# EAGLE library part TOPLED-3 (library _led-rgb)
OSRAM Edited: brunql Removed center pad in pcb - Hyper Multi TOPLED® (RGB) LB E673, LV E673, LT E673 - Power TOPLED® Enhanced optical Power LED (HOP2000) LS E67B, LA E67B, LO E67B, LY E67B - Hyper Multi TOPLED® Enhanced optical Power LED (HOP2000 / ATON®) LATB T66B - Hyper Multi TOPLED® Hyper-Bright LED LATB T686 Source: http://www.osram.convergy.de/
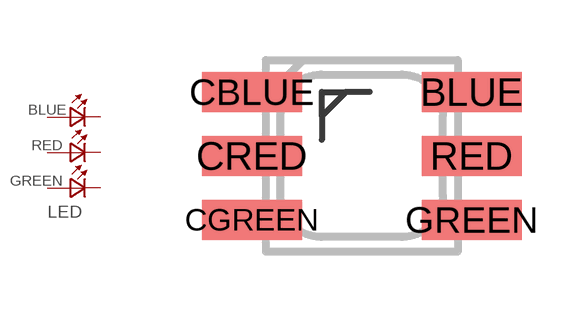
[diagram p0: symbol with the pads of LP2C63-ST-RGB-SR0; footprint LP2C63-ST-RGB-SR0]

Designator prefix LED

## TOPLED-3SMD-5X5  [LP2C63-ST-RGB-SR0]
BLUE  RED  pas
CBLUE  CRED  pas
CGREEN  CBLUE  pas
CRED  CGREEN  pas
GREEN  BLUE  pas
RED  GREEN  pas

## TOPLED-3RF-W2SA50TS  [LP2C63-ST-RGB-SR0]
BLUE  BLUE  pas
CBLUE  CBLUE  pas
CGREEN  CGREEN  pas
CRED  CRED  pas
GREEN  GREEN  pas
RED  RED  pas

## Footprint LP2C63-ST-RGB-SR0 (pad centres in mm)
1.5W RGB HIGH POWER LED LEDTECH ELECTRONICS CORP. Source: LP2C63-ST-RGB-SR0.SPEC.pdf
smd 2.5 x 1: BLUE 2.75,1.6; CBLUE -2.75,1.6; CGREEN -2.75,-1.6; CRED -2.75,0; GREEN 2.75,-1.6; RED 2.75,0